# EAGLE library part 74X1G74 (library TinyNES_Library)
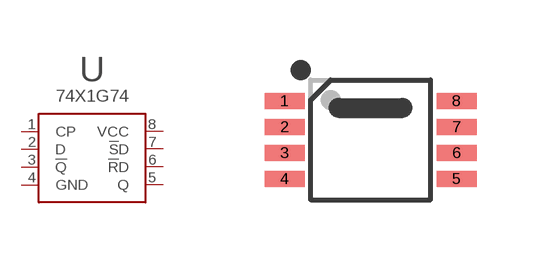
[diagram p12: symbol with the pads of TSSOP-8; footprint TSSOP-8]

Designator prefix U

## 74X1G74  [TSSOP-8]
1  CP
2  D
3  !Q
4  GND
5  Q
6  !R!D
7  !S!D
8  VCC

## Footprint TSSOP-8 (pad centres in mm)
smd 1 x 0.4: 1 -2.15,0.975; 2 -2.15,0.325; 3 -2.15,-0.325; 4 -2.15,-0.975; 5 2.15,-0.975; 6 2.15,-0.325; 7 2.15,0.325; 8 2.15,0.975